# EAGLE library part TFT (library MODULES)
Adafruit 160x128 TFT module.
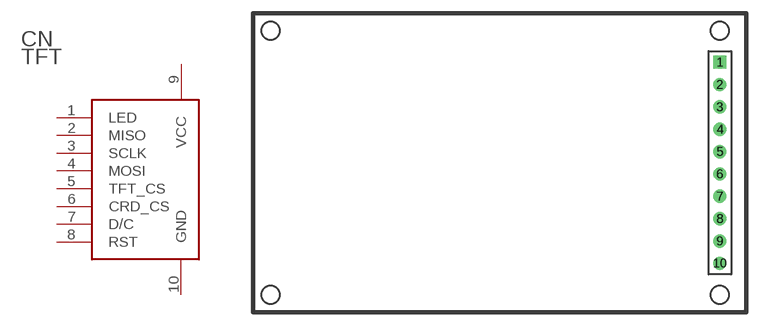
[diagram p2: symbol with the pads of ADAFRUIT_TFT; footprint ADAFRUIT_TFT]

Designator prefix CN

## TFT  [ADAFRUIT_TFT]
1  LED
2  MISO
3  SCLK
4  MOSI
5  TFT_CS
6  CRD_CS
7  D/C
8  RST
9  VCC
10  GND

## Footprint ADAFRUIT_TFT (pad centres in mm)
drill 1 pad 1.5 square: 1 25,11.43
drill 1 pad 1.5: 2 25,8.89; 3 25,6.35; 4 25,3.81; 5 25,1.27; 6 25,-1.27; 7 25,-3.81; 8 25,-6.35; 9 25,-8.89; 10 25,-11.43